# EAGLE library part HC-05 (library Passives)
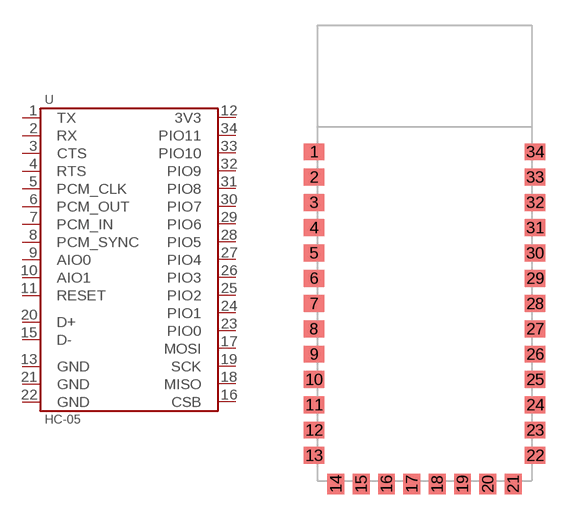
[diagram p2: symbol with the pads of HC-05; footprint HC-05]

Designator prefix U

## HC-05  [HC-05]
1  TX
2  RX
3  CTS
4  RTS
5  PCM_CLK
6  PCM_OUT
7  PCM_IN
8  PCM_SYNC
9  AIO0
10  AIO1
11  RESET
12  3V3
13  GND
15  D-
16  CSB
17  MOSI
18  MISO
19  SCK
20  D+
21  GND
22  GND
23  PIO0
24  PIO1
25  PIO2
26  PIO3
27  PIO4
28  PIO5
29  PIO6
30  PIO7
31  PIO8
32  PIO9
33  PIO10
34  PIO11

## Footprint HC-05 (pad centres in mm)
smd 1.2 x 1: 1 -6.55,6; 2 -6.55,4.5; 3 -6.55,3; 4 -6.55,1.5; 5 -6.55,0; 6 -6.55,-1.5; 7 -6.55,-3; 8 -6.55,-4.5; 9 -6.55,-6; 10 -6.55,-7.5; 11 -6.55,-9; 12 -6.55,-10.5; 13 -6.55,-12; 22 6.55,-12; 23 6.55,-10.5; 24 6.55,-9; 25 6.55,-7.5; 26 6.55,-6; 27 6.55,-4.5; 28 6.55,-3; 29 6.55,-1.5; 30 6.55,0; 31 6.55,1.5; 32 6.55,3; 33 6.55,4.5; 34 6.55,6
smd 1 x 1.2: 14 -5.25,-13.7; 15 -3.75,-13.7; 16 -2.25,-13.7; 17 -0.75,-13.7; 18 0.75,-13.7; 19 2.25,-13.7; 20 3.75,-13.7; 21 5.25,-13.7